# EAGLE library part 618026325323 (library Wurth_Elektronik_Electromechanic_Input-Output_Connectors_rev16a)
WR-DSUB Male High Density Angled PCB Connector without Hex Screw, 26 Pins=>Code : Con_I-O_DSUB_PCB_Male_wo-screw_618026325323 <http://katalog.we-online.de/media/images/eican/Con_I-O_DSUB_PCB_Male_wo-screw_6180xx325323_pf2.jpg> Details see: http://katalog.we-online.de/en/em/618_0xx_325_323 Created 2014-07-10, Karrer Zheng 2014 (C) Würth Elektronik
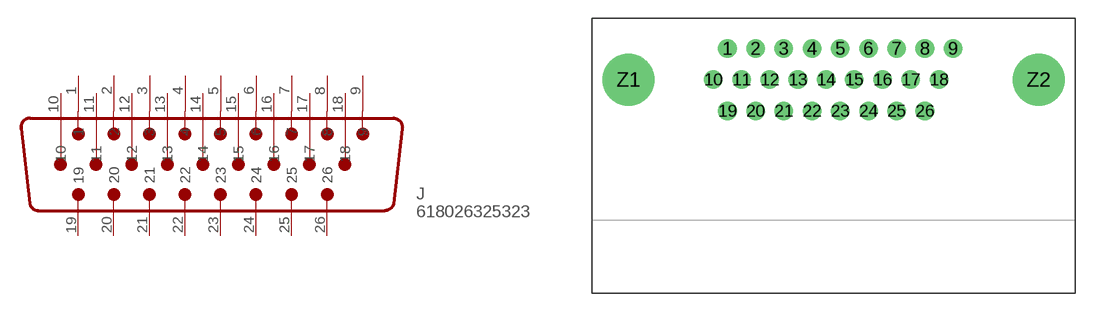
[diagram p53: symbol with the pads of 618026325323; footprint 618026325323]

Designator prefix J

## 618026325323  [618026325323]
1  1
2  2
3  3
4  4
5  5
6  6
7  7
8  8
9  9
10  10
11  11
12  12
13  13
14  14
15  15
16  16
17  17
18  18
19  19
20  20
21  21
22  22
23  23
24  24
25  25
26  26

## Footprint 618026325323 (pad centres in mm)
WR-DSUB Male High Density Angled PCB Connector without Hex Screw, 26 Pins
drill 1: 1 -8.625,2.54; 2 -6.335,2.54; 3 -4.045,2.54; 4 -1.755,2.54; 5 0.535,2.54; 6 2.825,2.54; 7 5.115,2.54; 8 7.405,2.54; 9 9.695,2.54; 10 -9.77,0; 11 -7.48,0; 12 -5.19,0; 13 -2.9,0; 14 -0.61,0; 15 1.68,0; 16 3.97,0; 17 6.26,0; 18 8.55,0; 19 -8.625,-2.54; 20 -6.335,-2.54; 21 -4.045,-2.54; 22 -1.755,-2.54; 23 0.535,-2.54; 24 2.825,-2.54; 25 5.115,-2.54; 26 7.405,-2.54
drill 3.2: Z1 -16.65,0; Z2 16.65,0